# Altium footprint library PcbLib_ADH.PcbLib: 136 footprints (part 3 of 9)
Each footprint in its own frame and in the unit in brackets; x right, y up, seen from the top. Pads: shape width x height; smd on the part's side, far side on the other; paste and mask are expansions set on the pad; w line width, h text height; cw(c..) or ccw(c..) is an arc to the next point about the centre after c.
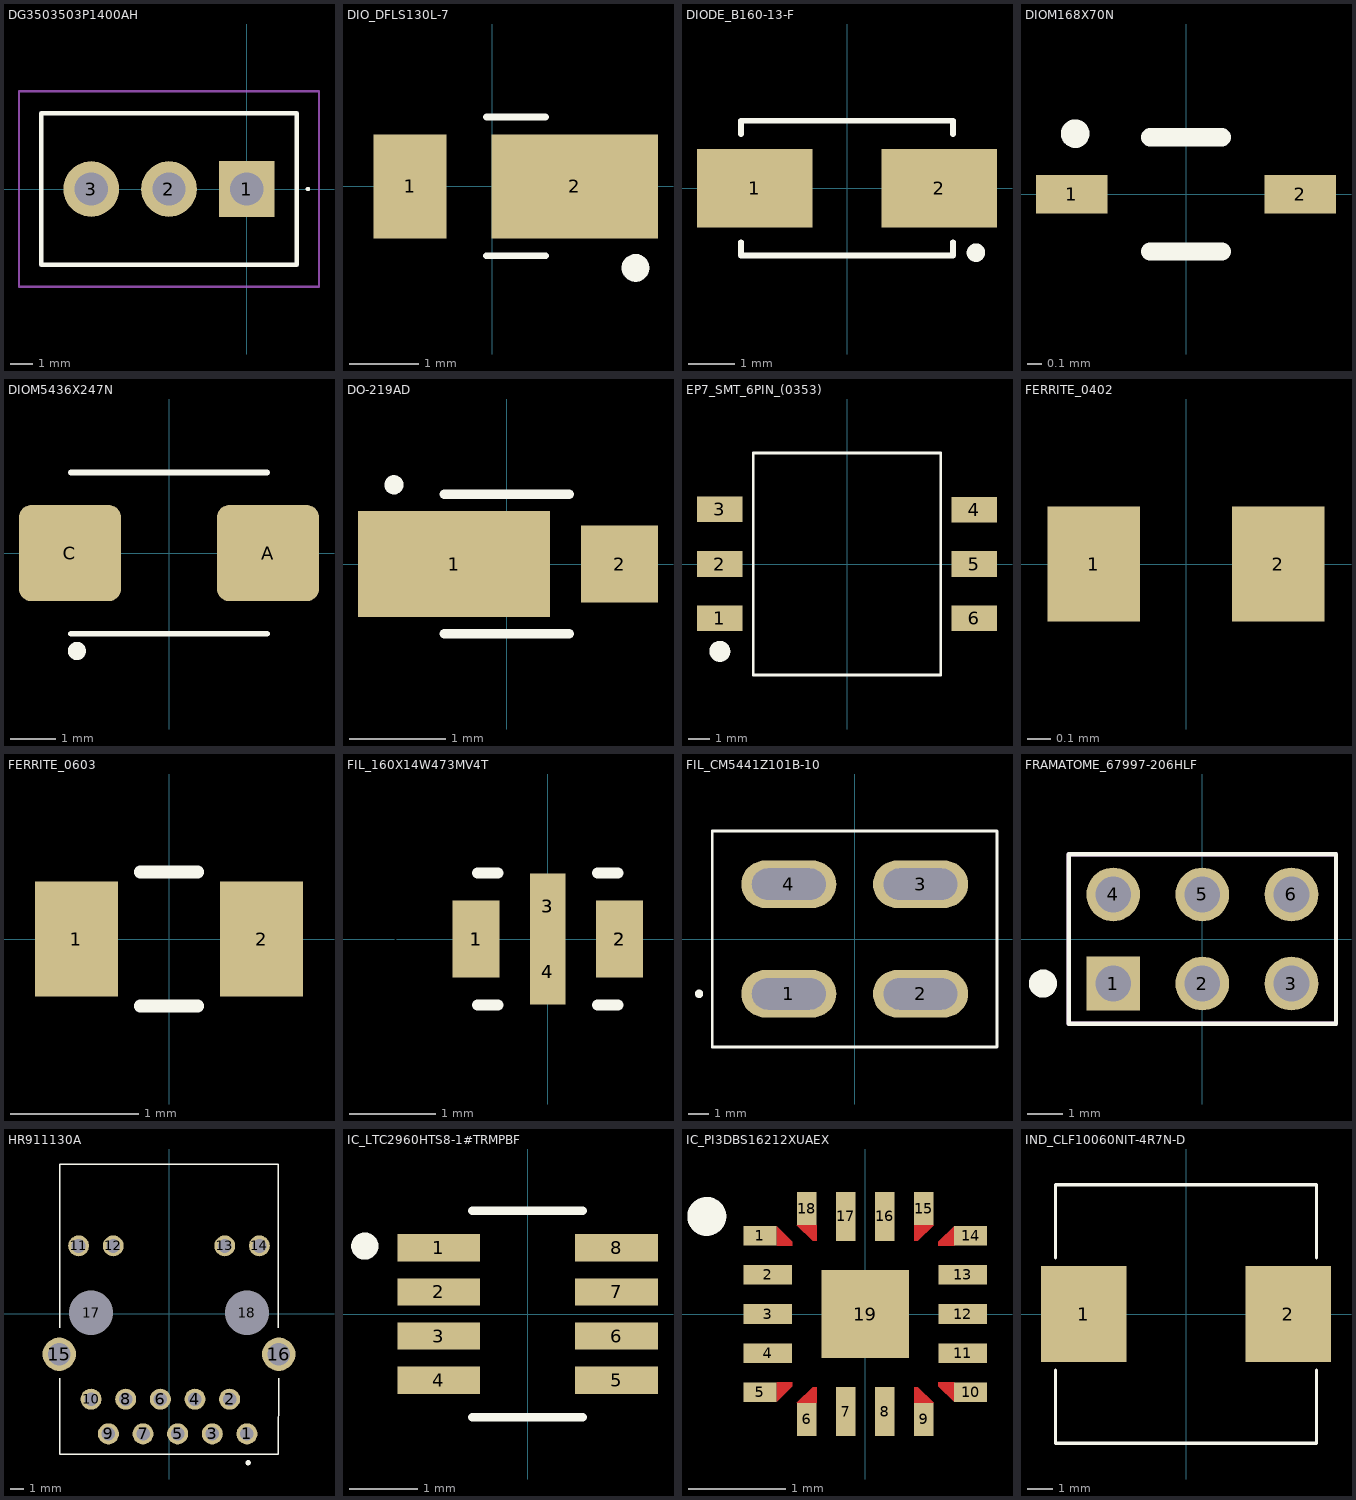
[diagram p2: the footprints below, top view; thin cyan lines are the x and y axes]

## DG3503503P1400AH [mm]
pads (3):
  rect 2.5x2.5 hole 1.5: 1(0,0)
  round 2.5 hole 1.5: 2(-3.5,0) 3(-7,0)
Top Overlay:
  lines w0.1: 2.7,0 cw(c2.75,0) 2.8,0 cw(c2.75,0) 2.7,0
  lines w0.2: -9.25,-3.4 2.25,-3.4 2.25,3.4 -9.25,3.4 -9.25,-3.4
Mechanical 15:
  lines w0.1: -9.25,-3.4 2.25,-3.4 2.25,3.4 -9.25,3.4 -9.25,-3.4
Mechanical 20:
  lines w0.1: -10.25,-4.4 3.25,-4.4 3.25,4.4 -10.25,4.4 -10.25,-4.4
3D body "PCB_Terminal_Block_3-P3.5.step": height 8.8, standoff -3.6, extent -9,-3.4 2,3.4

## DIO_DFLS130L-7 [mm]
height 1
pads (2):
  rect 1.05x1.5 smd: 1(-1.188,0)
  rect 2.4x1.5 smd: 2(1.188,0)
Top Overlay:
  circle w0.2: c2.063,-1.175 r0.1
  lines w0.1: -0.088,-1 0.337,-1 0.763,-1 ; -0.088,1 0.337,1 0.763,1
3D body "step_temp.STEP": height 1, standoff 0, extent -1.512,-0.89 2.187,0.89

## DIODE_B160-13-F [mm]
pads (2):
  rect 2.5x1.7 smd: 1(-2,0) 2(2,0)
Top Overlay:
  circle w0.2: c2.794,-1.397 r0.1
  lines w0.127: -2.3,-1.173 -2.3,-1.46 2.3,-1.46 2.3,-1.173 ; -2.3,1.173 -2.3,1.46 2.3,1.46 2.3,1.173
3D body "B160-13-F.STEP": height 2.43, standoff 0.03, extent -2.598,-1.302 2.598,1.302

## DIOM168X70N [mm]
height 0.7
pads (2):
  rect 0.5x0.27 smd: 1(-0.8,0) 2(0.8,0)
Top Overlay:
  circle w0.1: c-0.775,0.425 r0.05
  lines w0.127: -0.25,-0.4 0.25,-0.4 ; -0.25,0.4 0.25,0.4
3D body "step_temp.STEP": height 0.7, standoff 0, extent -0.8,-0.4 0.8,0.4

## DIOM5436X247N [mm]
pads (2):
  rrect25% 2.25x2.12 smd: A(2.185,0) C(-2.185,0)
Top Overlay:
  circle w0.2: c-2.032,-2.159 r0.1
  lines w0.127: -2.16,-1.78 2.16,-1.78 ; -2.16,1.78 2.16,1.78
3D body "NSIC2020BT3G.STEP": height 2.27, standoff -0.19, extent -2.718,-1.778 2.718,1.778

## DO-219AD [mm]
pads (2):
  rect 2x1.1 smd: 1(-0.55,0)
  rect 0.8x0.8 smd: 2(1.175,0)
Top Overlay:
  circle w0.1: c-1.175,0.825 r0.05
  lines w0.1: -0.65,-0.725 0,-0.725 0.65,-0.725 ; -0.65,0.725 0,0.725 0.65,0.725
3D body "User Library-DO-219AD.STEP": height 0.71, standoff 0, extent -1.25,-0.65 1.25,0.65

## EP7_SMT_6PIN_(0353) [mil]
pads (6):
  rect 82x46 smd: 1(-229.5,-98) 2(-229.5,0) 3(-229.33,98.43) 4(229.5,98) 5(229.5,0) 6(229.5,-98)
Top Overlay:
  lines w5: -169,-200 169,-200 169,200 -169,200 -169,-200
  lines w19.68: -220.66,-160.15 cw(c-229.33,-157.48) -220.26,-157.48
3D body "070-5801 (rev1).STEP": height 338.19, standoff 0, extent -250,-192.13 250,192.91

## FERRITE_0402 [mm]
pads (2):
  rect 0.4x0.5 smd: 1(-0.4,0) 2(0.4,0)
3D body "BLM15PX121SN1D.stp": height 0.5, standoff 0, extent -0.5,-0.25 0.5,0.25

## FERRITE_0603 [mm]
pads (2):
  rect 0.65x0.9 smd: 1(-0.725,0) 2(0.725,0)
Top Overlay:
  lines w0.1: -0.225,-0.525 0.225,-0.525 ; -0.225,0.525 0.225,0.525
3D body "742792603.stp": height 0.8, standoff 0, extent -0.8,-0.4 0.8,0.4

## FIL_160X14W473MV4T [mm]
height 0.66
pads (10):
  rect 0.64x0.89 on Top Solder mask+0: 1(-1.75,-0.025) 1(-0.83,0) 1(-0.83,0) 2(0.83,0)
  rect 0.54x0.89 smd: 1(-0.83,0) 2(0.83,0)
  rect 0.51x0.76 on Top Solder mask+0: 3(0,0.38) 4(0,-0.38)
  rect 0.41x0.76 smd: 3(0,0.38) 4(0,-0.38)
Top Overlay:
  lines w0.127: -0.813,-0.765 -0.575,-0.765 ; -0.813,0.765 -0.575,0.765 ; 0.575,-0.765 0.813,-0.765 ; 0.575,0.765 0.813,0.765
3D body "User Library-0603_X2Y.STEP": height 0.66, standoff 0, extent -0.815,-0.446 0.815,0.446

## FIL_CM5441Z101B-10 [mm]
pads (4):
  oval 4.58x2.29 hole 1.52 slot 3.56 at 0 deg: 1(-3.175,-2.64) 2(3.175,-2.64) 3(3.175,2.64) 4(-3.175,2.64)
Top Overlay:
  circle w0.2: c-7.5,-2.64 r0.1
  lines w0.127: -6.86,-5.205 -6.86,5.205 6.86,5.205 6.86,-5.205 -6.86,-5.205
3D body "step_temp.STEP": height 10.77, standoff -3.38, extent -6.86,-5.205 6.86,5.205

## FRAMATOME_67997-206HLF [mm]
pads (6):
  rect 1.53x1.53 hole 1.02: 1(-2.54,-1.27)
  round 1.53 hole 1.02: 2(0,-1.27) 3(2.54,-1.27) 4(-2.54,1.27) 5(0,1.27) 6(2.54,1.27)
Top Overlay:
  circle w0.4: c-4.54,-1.27 r0.2
  lines w0.127: -3.81,-2.415 -3.81,2.415 3.81,2.415 3.81,-2.415 -3.81,-2.415
Mechanical 13:
  circle w0.4: c-2.54,-1.27 r0.2
  lines w0.127: -3.81,-2.415 -3.81,2.415 3.81,2.415 3.81,-2.415 -3.81,-2.415
3D body "67997-206HLF--3DModel-STEP-554624.STEP": height 8.39, standoff -3.04, extent -3.81,-2.415 3.81,2.415

## HR911130A [mm]
pads (18):
  round 1.54 hole 0.99: 1(5.715,-8.794) 2(4.445,-6.254) 3(3.175,-8.794) 4(1.905,-6.254) 5(0.635,-8.794) 6(-0.635,-6.254) 7(-1.905,-8.794) 8(-3.175,-6.254) 9(-4.445,-8.794) 10(-5.715,-6.254)
  round 1.53 hole 1.02: 11(-6.625,4.996) 12(-4.085,4.996) 13(4.085,4.996) 14(6.625,4.996)
  round 2.445 hole 1.63: 15(-8.05,-2.954) 16(8.05,-2.954)
  round 1.625 hole 3.25 unplated: 17(-5.715,0.096) 18(5.715,0.096)
Top Overlay:
  lines w0.1: -8.023,-4.704 -8.023,-10.304 8,-10.304 8.05,-4.704 ; -8.02,-1.004 -8.02,10.996 8.02,10.996 8.02,-1.004
  lines w0.2: 5.7,-10.904 ccw(c5.8,-10.904) 5.9,-10.904 ; 5.715,-10.904 cw(c5.807,-10.904) 5.9,-10.904
3D body "HR911130A.stp": height 13.45, standoff -3.05, extent -7.94,-10.4 7.94,11

## IC_LTC2960HTS8-1#TRMPBF [mm]
pads (8):
  rect 1.22x0.4 smd: 1(-1.31,0.975) 2(-1.31,0.325) 3(-1.31,-0.325) 4(-1.31,-0.975) 5(1.31,-0.975) 6(1.31,-0.325) 7(1.31,0.325) 8(1.31,0.975)
Top Overlay:
  circle w0.2: c-2.4,1 r0.1
  lines w0.127: -0.813,-1.52 0.813,-1.52 ; -0.813,1.52 0.813,1.52
3D body "User Library-TSOT-23-8.STEP": height 0.96, standoff -0.04, extent -1.4,-1.45 1.4,1.45

## IC_PI3DBS16212XUAEX [mm]
pads (19):
  rect 0.34x0.2 smd mask+0: 1(-1.08,0.8) 5(-1.08,-0.8) 10(1.08,-0.8) 14(1.08,0.8)
  rect 0.5x0.2 smd: 2(-1,0.4) 3(-1,0) 4(-1,-0.4) 11(1,-0.4) 12(1,0) 13(1,0.4)
  rect 0.2x0.34 smd mask+0: 6(-0.6,-1.08) 9(0.6,-1.08) 15(0.6,1.08) 18(-0.6,1.08)
  rect 0.2x0.5 smd: 7(-0.2,-1) 8(0.2,-1) 16(0.2,1) 17(-0.2,1)
  rect 0.9x0.9 smd paste-0.148: 19(0,0)
Top Layer:
  region: -0.75,0.74 -0.75,0.7 -0.91,0.7 -0.91,0.9
  region: -0.5,0.75 -0.54,0.75 -0.7,0.91 -0.5,0.91
  region: 0.91,-0.9 0.75,-0.74 0.75,-0.7 0.91,-0.7
  region: 0.7,-0.91 0.5,-0.91 0.5,-0.75 0.54,-0.75
  region: 0.91,0.7 0.75,0.7 0.75,0.74 0.91,0.9
  region: 0.54,0.75 0.5,0.75 0.5,0.91 0.7,0.91
  region: -0.75,-0.74 -0.91,-0.9 -0.91,-0.7 -0.75,-0.7
  region: -0.5,-0.91 -0.7,-0.91 -0.54,-0.75 -0.5,-0.75
Top Overlay:
  circle w0.2: c-1.625,1 r0.1
Top Paste:
  region: -0.75,0.74 -0.75,0.7 -0.91,0.7 -0.91,0.9
  region: -0.5,0.75 -0.54,0.75 -0.7,0.91 -0.5,0.91
  region: 0.91,-0.9 0.75,-0.74 0.75,-0.7 0.91,-0.7
  region: 0.7,-0.91 0.5,-0.91 0.5,-0.75 0.54,-0.75
  region: 0.91,0.7 0.75,0.7 0.75,0.74 0.91,0.9
  region: 0.54,0.75 0.5,0.75 0.5,0.91 0.7,0.91
  region: -0.75,-0.74 -0.91,-0.9 -0.91,-0.7 -0.75,-0.7
  region: -0.5,-0.91 -0.7,-0.91 -0.54,-0.75 -0.5,-0.75
Top Solder:
  region: 1.35,0.6 0.65,0.6 0.65,0.75 0.9,1 1.35,1
  region: 1.35,-1 0.9,-1 0.65,-0.75 0.65,-0.6 1.35,-0.6
  region: 0.8,-0.9 0.8,-1.35 0.4,-1.35 0.4,-0.65 0.55,-0.65
  region: -0.4,-1.35 -0.8,-1.35 -0.8,-0.9 -0.55,-0.65 -0.4,-0.65
  region: -0.65,-0.75 -0.9,-1 -1.35,-1 -1.35,-0.6 -0.65,-0.6
  region: 0.8,0.9 0.55,0.65 0.4,0.65 0.4,1.35 0.8,1.35
  region: -0.4,0.65 -0.55,0.65 -0.8,0.9 -0.8,1.35 -0.4,1.35
  region: -0.7,0.8 -0.65,0.75 -0.65,0.6 -1.35,0.6 -1.35,1 -0.9,1
3D body "PI3DBS12212AXUAEX.STEP": height 0.4, standoff 0, extent -1,-1 1,1

## IND_CLF10060NIT-4R7N-D [mm]
height 6.3
pads (2):
  rect 3.3x3.7 smd: 1(-3.95,0) 2(3.95,0)
Top Overlay:
  lines w0.127: -5.05,-2.17 -5.05,-5 5.05,-5 5.05,-2.17 ; -5.05,2.17 -5.05,5 5.05,5 5.05,2.17
3D body "step_temp.STEP": height 6.3, standoff 0, extent -5.05,-5 5.05,5